# EAGLE library part WE-RJ45_LAN_1000_BASET_STD_GREEN_YELLOW_A (library Wuerth_Elektronik_eiSos_Version_6-12)
WE-RJ45 LAN Transformer 1000 BaseT, STD with LED - RJ45 connector with integrated transformer common mode choke - 350 µH min.OCL with 8 mA bias - Complies with IEEE 802.3 - Extended temperature range from 0°C to +70°C available -- ADSL Modem -- Embedded PC -- LAN network applications -- Hub, Router, Switches
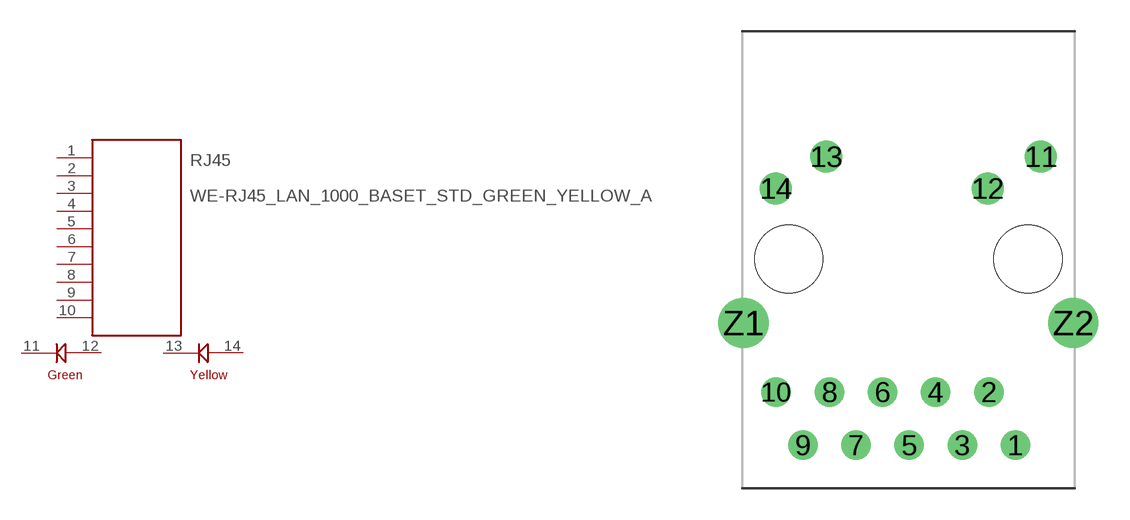
[diagram p116: symbol with the pads of WE-RJ45_LAN_1000_BASET_7499111213; footprint WE-RJ45_LAN_1000_BASET_7499111213]

Designator prefix RJ45

## WE-RJ45_LAN_1000_BASET_STD_GREEN_YELLOW_A_7499111213  [WE-RJ45_LAN_1000_BASET_7499111213]
1  1  pas
2  2  pas
3  3  pas
4  4  pas
5  5  pas
6  6  pas
7  7  pas
8  8  pas
9  9  pas
10  10  pas
11  11  pas
12  12  pas
13  13  pas
14  14  pas

## Footprint WE-RJ45_LAN_1000_BASET_7499111213 (pad centres in mm)
WE-RJ45 LAN Transformer 1000 BaseT, STD with LED
drill 0.9 round: 1 5.115,-8.89; 2 3.845,-6.35; 3 2.575,-8.89; 4 1.305,-6.35; 5 0.035,-8.89; 6 -1.235,-6.35; 7 -2.505,-8.89; 8 -3.775,-6.35; 9 -5.045,-8.89; 10 -6.315,-6.35
drill 1.02 round: 11 6.325,4.9; 12 3.785,3.38; 13 -3.925,4.9; 14 -6.325,3.38
drill 1.6 round: Z1 -7.875,-3.05; Z2 7.875,-3.05
hole 3.25 at -5.715,0
hole 3.25 at 5.715,0